# EAGLE library part CONNECTOR_8 (library SnapEDA)
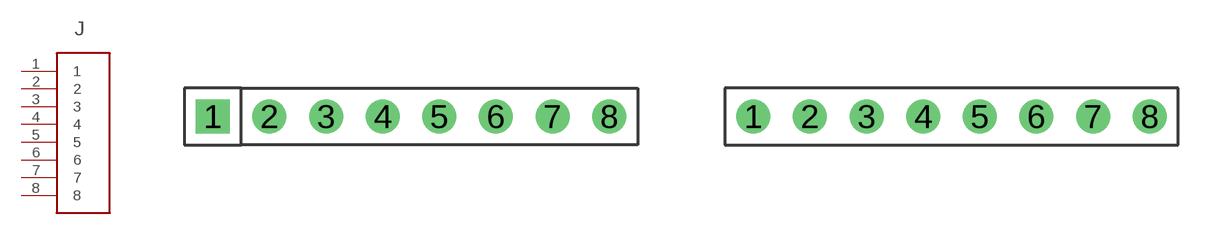
[diagram p2: symbol with the pads of 68000-108HLF; footprints 68000-108HLF, 68000-108HLF-NO-SQUARE]

Designator prefix J

## CONNECTOR_8  [68000-108HLF]
1  1
2  2
3  3
4  4
5  5
6  6
7  7
8  8

## CONNECTOR_8-NO_SQUARE  [68000-108HLF-NO-SQUARE]
Pads as for 68000-108HLF

## Footprint 68000-108HLF (pad centres in mm)
drill 1.016 square: 1 0,0
drill 1.016: 2 2.54,0; 3 5.08,0; 4 7.62,0; 5 10.16,0; 6 12.7,0; 7 15.24,0; 8 17.78,0

## Footprint 68000-108HLF-NO-SQUARE (pad centres in mm)
drill 1.016: 1 0,0; 2 2.54,0; 3 5.08,0; 4 7.62,0; 5 10.16,0; 6 12.7,0; 7 15.24,0; 8 17.78,0